# Altium footprint library CHS-01TA.PcbLib: 1 footprints
Each footprint in its own frame and in the unit in brackets; x right, y up, seen from the top. Pads: shape width x height; smd on the part's side, far side on the other; paste and mask are expansions set on the pad; w line width, h text height; cw(c..) or ccw(c..) is an arc to the next point about the centre after c.
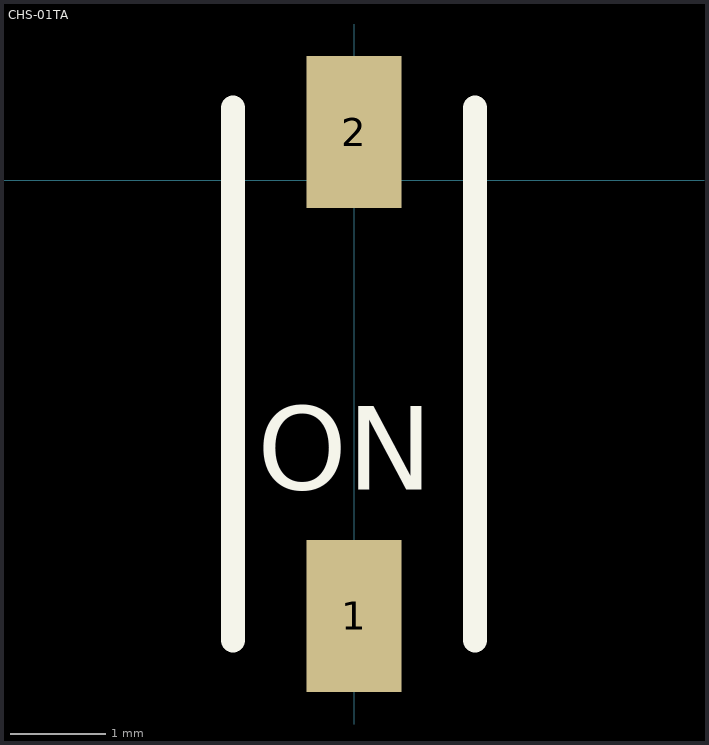
[diagram p0: the footprint, top view; thin cyan lines are the x and y axes]

## CHS-01TA [mm]
pads (2):
  rect 1x1.6 smd: 1(0,-4.572) 2(0,0.508)
Top Overlay:
  lines w0.254: -1.27,-4.826 -1.27,0.762 ; 1.27,-4.826 1.27,0.762
  text "ON" at -1.016,-3.538 h1.5
3D body "CHS-01TA.stp": height 2.53, standoff 0.01, extent -1.25,-4.832 1.25,0.768